# EAGLE library part 61206020621 (library Wire-to-Board (rev18a))
WR-BHD 2.54mm Male SMT Box Header High Temperature, 60 pins=>Code : Con_WTB_BHD_2.54_Male_THT_WS_61206020621 <http://katalog.we-online.de/media/thumbs2/eican/thb_Con_WTB_BHD_2.54_Male_THT_WS_6120xx21621_pf2.jpg> Details see: http://katalog.we-online.de/en/em/612_0xx_216_21 Created 2014-06-04, Karrer Zheng 2014 (C) Würth Elektronik
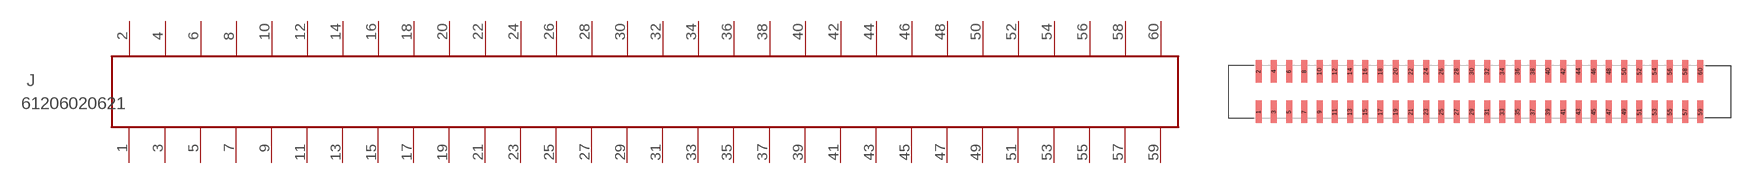
[diagram p202: symbol with the pads of 61206020621; footprint 61206020621]

Designator prefix J

## 61206020621  [61206020621]
1  1  pas
2  2  pas
3  3  pas
4  4  pas
5  5  pas
6  6  pas
7  7  pas
8  8  pas
9  9  pas
10  10  pas
11  11  pas
12  12  pas
13  13  pas
14  14  pas
15  15  pas
16  16  pas
17  17  pas
18  18  pas
19  19  pas
20  20  pas
21  21  pas
22  22  pas
23  23  pas
24  24  pas
25  25  pas
26  26  pas
27  27  pas
28  28  pas
29  29  pas
30  30  pas
31  31  pas
32  32  pas
33  33  pas
34  34  pas
35  35  pas
36  36  pas
37  37  pas
38  38  pas
39  39  pas
40  40  pas
41  41  pas
42  42  pas
43  43  pas
44  44  pas
45  45  pas
46  46  pas
47  47  pas
48  48  pas
49  49  pas
50  50  pas
51  51  pas
52  52  pas
53  53  pas
54  54  pas
55  55  pas
56  56  pas
57  57  pas
58  58  pas
59  59  pas
60  60  pas

## Footprint 61206020621 (pad centres in mm)
WR-BHD 2.54mm Male SMT Box Header High Temperature, 60 pins
smd 1 x 3.75: 1 -36.83,-3.375; 2 -36.83,3.375; 3 -34.29,-3.375; 4 -34.29,3.375; 5 -31.75,-3.375; 6 -31.75,3.375; 7 -29.21,-3.375; 8 -29.21,3.375; 9 -26.67,-3.375; 10 -26.67,3.375; 11 -24.13,-3.375; 12 -24.13,3.375; 13 -21.59,-3.375; 14 -21.59,3.375; 15 -19.05,-3.375; 16 -19.05,3.375; 17 -16.51,-3.375; 18 -16.51,3.375; 19 -13.97,-3.375; 20 -13.97,3.375; 21 -11.43,-3.375; 22 -11.43,3.375; 23 -8.89,-3.375; 24 -8.89,3.375; 25 -6.35,-3.375; 26 -6.35,3.375; 27 -3.81,-3.375; 28 -3.81,3.375; 29 -1.27,-3.375; 30 -1.27,3.375; 31 1.27,-3.375; 32 1.27,3.375; 33 3.81,-3.375; 34 3.81,3.375; 35 6.35,-3.375; 36 6.35,3.375; 37 8.89,-3.375; 38 8.89,3.375; 39 11.43,-3.375; 40 11.43,3.375; 41 13.97,-3.375; 42 13.97,3.375; 43 16.51,-3.375; 44 16.51,3.375; 45 19.05,-3.375; 46 19.05,3.375; 47 21.59,-3.375; 48 21.59,3.375; 49 24.13,-3.375; 50 24.13,3.375; 51 26.67,-3.375; 52 26.67,3.375; 53 29.21,-3.375; 54 29.21,3.375; 55 31.75,-3.375; 56 31.75,3.375; 57 34.29,-3.375; 58 34.29,3.375; 59 36.83,-3.375; 60 36.83,3.375